# Altium footprint library BUZZ.PcbLib: 1 footprints
Each footprint in its own frame and in the unit in brackets; x right, y up, seen from the top. Pads: shape width x height; smd on the part's side, far side on the other; paste and mask are expansions set on the pad; w line width, h text height; cw(c..) or ccw(c..) is an arc to the next point about the centre after c.
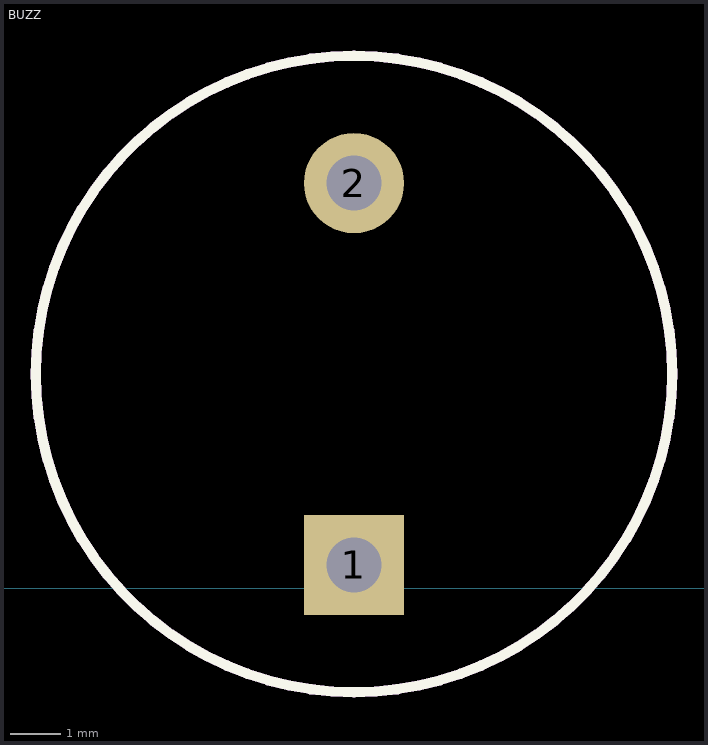
[diagram p0: the footprint, top view; thin cyan lines are the x and y axes]

## BUZZ [mm]
pads (2):
  rect 2x2 hole 1.1: 1(12.786,0.465)
  round 2 hole 1.1: 2(12.786,8.085)
Top Overlay:
  lines w0.203: 6.436,4.275 cw(c12.786,4.275) 12.786,10.625 cw(c12.786,4.275) 19.136,4.275 cw(c12.786,4.275) 12.786,-2.075 cw(c12.786,4.275) 6.436,4.275
Mechanical 1:
  lines w0.203: 6.436,4.275 cw(c12.786,4.275) 12.786,10.625 cw(c12.786,4.275) 19.136,4.275 cw(c12.786,4.275) 12.786,-2.075 cw(c12.786,4.275) 6.436,4.275